# Altium footprint library PCB - CRYSTALS - ABRACON ABS06.PCBLIB: 1 footprints
Each footprint in its own frame and in the unit in brackets; x right, y up, seen from the top. Pads: shape width x height; smd on the part's side, far side on the other; paste and mask are expansions set on the pad; w line width, h text height; cw(c..) or ccw(c..) is an arc to the next point about the centre after c.
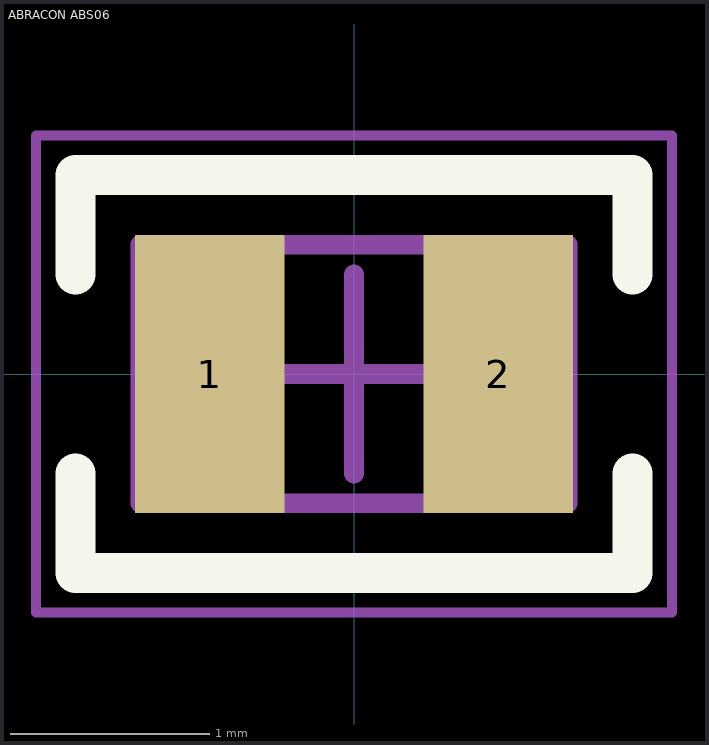
[diagram p0: the footprint, top view; thin cyan lines are the x and y axes]

## ABRACON ABS06 [mm] "Crystal, 2-Leads, Body 1.20x2.00mm, Pitch 1.50mm, IPC Medium Density"
height 0.6
pads (2):
  rect 0.75x1.4 smd: 1(-0.725,0) 2(0.725,0)
Top Overlay:
  lines w0.2: -1.4,-0.5 -1.4,-1 0,-1 1.4,-1 1.4,-0.5 ; -1.4,0.5 -1.4,1 1.4,1 1.4,0.5
Mechanical 13:
  lines w0.1: -1.075,-0.65 -1.075,0.65 1.075,0.65 1.075,-0.65 -1.075,-0.65
Mechanical 15:
  lines w0.05: -1.6,-1.2 -1.6,1.2 1.6,1.2 1.6,-1.2 -1.6,-1.2
  lines w0.1: -0.5,0 0.5,0 ; 0,-0.5 0,0.5
3D body "Abracon ABS06.STEP": height 0.6, standoff 0, extent -1.025,-0.625 1.025,0.625